# Altium footprint library MX25L3206EM2I-12G.PcbLib: 3 footprints
Each footprint in its own frame and in the unit in brackets; x right, y up, seen from the top. Pads: shape width x height; smd on the part's side, far side on the other; paste and mask are expansions set on the pad; w line width, h text height; cw(c..) or ccw(c..) is an arc to the next point about the centre after c.
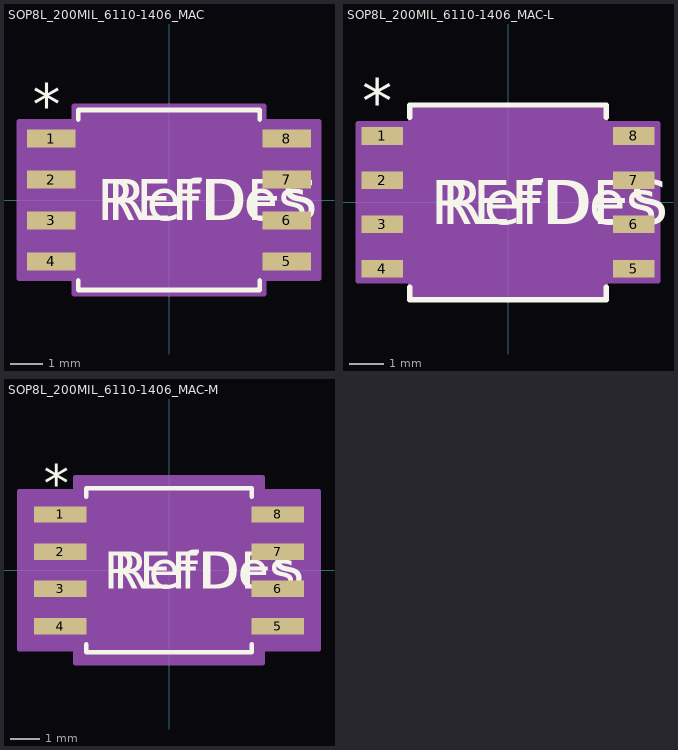
[diagram p0: the footprints below, top view; thin cyan lines are the x and y axes]

## SOP8L_200MIL_6110-1406_MAC [mil]
pads (8):
  rect 59x22 smd paste+0 mask+0: 1(-144,75) 2(-144,25) 3(-144,-25) 4(-144,-75) 5(144,-75) 6(144,-25) 7(144,25) 8(144,75)
Top Overlay:
  lines w6: -111,-98.62 -111,-110 111,-110 111,-98.62 ; -111,98.62 -111,110 111,110 111,98.62
  text "REFDES" at -87.5,-25 h50
  text "*" at -166.5,92 h50
  text "RefDes" at -75,-25 h50
Mechanical 13:
  lines w0: -12,105 ccw(c0,105) 12,105
  lines w1: -159.5,-85 -159.5,-65 -106,-65 -106,-85 -159.5,-85 ; -159.5,-35 -159.5,-15 -106,-15 -106,-35 -159.5,-35 ; -159.5,15 -159.5,35 -106,35 -106,15 -159.5,15 ; -159.5,65 -159.5,85 -106,85 -106,65 -159.5,65 ; -106,-105 106,-105 106,105 -106,105 -106,-105 ; 106,-85 106,-65 159.5,-65 159.5,-85 106,-85 ; 106,-35 106,-15 159.5,-15 159.5,-35 106,-35 ; 106,15 106,35 159.5,35 159.5,15 106,15 ; 106,65 106,85 159.5,85 159.5,65 106,65
  text "*" at -103.5,52 h50
  text "RefDes2" at -87.5,-25 h50
Mechanical 15:
  region: -116,-96 -183.5,-96 -183.5,96 -116,96 -116,115 116,115 116,96 183.5,96 183.5,-96 116,-96 116,-115 -116,-115
  lines w6: -183.5,-96 -183.5,96 -116,96 -116,115 116,115 116,96 183.5,96 183.5,-96 116,-96 116,-115 -116,-115 -116,-96 -183.5,-96
3D body "SOP8L_200MIL_6110-1406_MAC.step": height 85.12, standoff 0, extent -159.49,-105 159.49,105

## SOP8L_200MIL_6110-1406_MAC-L [mil]
pads (8):
  rect 47x20 smd paste+0 mask+0: 1(-142,75) 2(-142,25) 3(-142,-25) 4(-142,-75) 5(142,-75) 6(142,-25) 7(142,25) 8(142,75)
Top Overlay:
  lines w6: -111,-95.74 -111,-110 111,-110 111,-95.74 ; -111,95.74 -111,110 111,110 111,95.74
  text "REFDES" at -87.5,-25 h50
  text "*" at -164.5,90 h50
  text "RefDes" at -75,-25 h50
Mechanical 13:
  lines w0: -12,105 ccw(c0,105) 12,105
  lines w1: -159.5,-85 -159.5,-65 -106,-65 -106,-85 -159.5,-85 ; -159.5,-35 -159.5,-15 -106,-15 -106,-35 -159.5,-35 ; -159.5,15 -159.5,35 -106,35 -106,15 -159.5,15 ; -159.5,65 -159.5,85 -106,85 -106,65 -159.5,65 ; -106,-105 106,-105 106,105 -106,105 -106,-105 ; 106,-85 106,-65 159.5,-65 159.5,-85 106,-85 ; 106,-35 106,-15 159.5,-15 159.5,-35 106,-35 ; 106,15 106,35 159.5,35 159.5,15 106,15 ; 106,65 106,85 159.5,85 159.5,65 106,65
  text "*" at -103.5,52 h50
  text "RefDes2" at -87.5,-25 h50
Mechanical 15:
  region: -110,-89 -169.5,-89 -169.5,89 -110,89 -110,109 110,109 110,89 169.5,89 169.5,-89 110,-89 110,-109 -110,-109
  lines w6: -169.5,-89 -169.5,89 -110,89 -110,109 110,109 110,89 169.5,89 169.5,-89 110,-89 110,-109 -110,-109 -110,-89 -169.5,-89
3D body "SOP8L_200MIL_6110-1406_MAC.step": height 85.12, standoff 0, extent -159.49,-105 159.49,105

## SOP8L_200MIL_6110-1406_MAC-M [mil]
pads (8):
  rect 71x22 smd paste+0 mask+0: 1(-146,75) 2(-146,25) 3(-146,-25) 4(-146,-75) 5(146,-75) 6(146,-25) 7(146,25) 8(146,75)
Top Overlay:
  lines w6: -111,-99.1 -111,-110 111,-110 111,-99.1 ; -111,99.1 -111,110 111,110 111,99.1
  text "REFDES" at -87.5,-25 h50
  text "*" at -168.5,92 h50
  text "RefDes" at -75,-25 h50
Mechanical 13:
  lines w0: -12,105 ccw(c0,105) 12,105
  lines w1: -159.5,-85 -159.5,-65 -106,-65 -106,-85 -159.5,-85 ; -159.5,-35 -159.5,-15 -106,-15 -106,-35 -159.5,-35 ; -159.5,15 -159.5,35 -106,35 -106,15 -159.5,15 ; -159.5,65 -159.5,85 -106,85 -106,65 -159.5,65 ; -106,-105 106,-105 106,105 -106,105 -106,-105 ; 106,-85 106,-65 159.5,-65 159.5,-85 106,-85 ; 106,-35 106,-15 159.5,-15 159.5,-35 106,-35 ; 106,15 106,35 159.5,35 159.5,15 106,15 ; 106,65 106,85 159.5,85 159.5,65 106,65
  text "*" at -103.5,52 h50
  text "RefDes2" at -87.5,-25 h50
Mechanical 15:
  region: -126,-106 -201.5,-106 -201.5,106 -126,106 -126,125 126,125 126,106 201.5,106 201.5,-106 126,-106 126,-125 -126,-125
  lines w6: -201.5,-106 -201.5,106 -126,106 -126,125 126,125 126,106 201.5,106 201.5,-106 126,-106 126,-125 -126,-125 -126,-106 -201.5,-106
3D body "SOP8L_200MIL_6110-1406_MAC.step": height 85.12, standoff 0, extent -159.49,-105 159.49,105